# Altium integrated library Connector.IntLib: 20 symbols
Pins are listed as number, name and electrical type; pins without a type are passive.

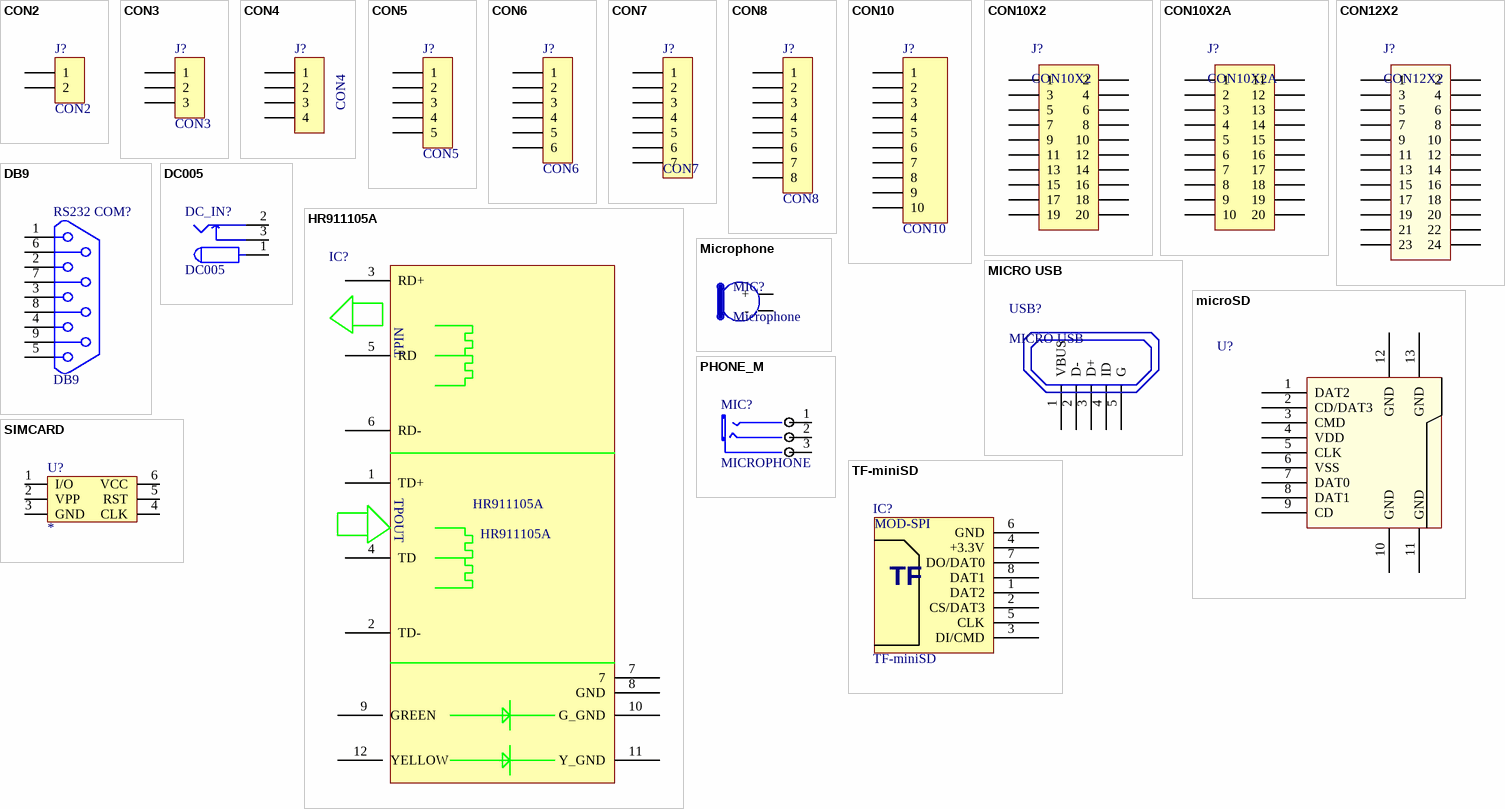
[diagram p0: symbols CON2 to TF-miniSD]

## CON2
designator J?
连接器
footprint SIP2_5.08
footprint HDR1X2 (Connector; Header; 2 Position)
footprint XH2.54-2P
footprint 6358-2P
footprint 5557-2P (pin 4.2mm)
footprint WJ2EDGR-5.08-2
footprint WJ500V-5.08-2
pins: 1, 2

## CON3
designator J?
连接器
footprint XH2.54-3P
footprint SIP3_5.08
footprint HDR1X3 (Connector; Header; 3 Position)
footprint WJ2EDGR-5.08-3
footprint WJ500V-5.08-3
pins: 1, 2, 3

## CON4
designator J?
连接器
footprint XH2.54-4P
footprint SIP4_5.08
footprint HDR1X4 (Connector; Header; 4 Position)
footprint XH2.0-4P
footprint WJ2EDGR-5.08-4
footprint WJ500V-5.08-4
pins: 1, 2, 3, 4

## CON5
designator J?
连接器
footprint XH2.54-5P
footprint SIP5_5.08
footprint HDR1X5 (Connector; Header; 5 Position)
footprint WJ2EDGR-5.08-5
footprint WJ500V-5.08-5
pins: 1, 2, 3, 4, 5

## CON6
designator J?
连接器
footprint XH2.54-6P
footprint HDR1X6 (Connector; Header; 6 Position)
footprint SIP6_5.08
footprint WJ2EDGR-5.08-6
footprint WJ500V-5.08-6
pins: 1, 2, 3, 4, 5, 6

## CON7
designator J?
连接器
footprint HDR1X7 (Connector; Header; 7 Position)
footprint XH2.54-7P
pins: 1, 2, 3, 4, 5, 6, 7

## CON8
designator J?
连接器
footprint XH2.54-8P
footprint HDR1X8 (Connector; Header; 8 Position)
footprint WJ2EDGR-5.08-8
footprint WJ500V-5.08-8
pins: 1, 2, 3, 4, 5, 6, 7, 8

## CON10
designator J?
连接器
footprint HDR1X10 (Connector; Header; 10 Position)
pins: 1, 2, 3, 4, 5, 6, 7, 8, 9, 10
1 alternate drawing of the same symbol

## CON10X2
designator J?
连接器
pins: 1, 2, 3, 4, 5, 6, 7, 8, 9, 10, 11, 12, 13, 14, 15, 16, 17, 18, 19, 20

## CON10X2A
designator J?
连接器
footprint BULL2X10_CEN_H (Connector; Header; 10x2 Position)
pins: 1, 2, 3, 4, 5, 6, 7, 8, 9, 10, 11, 12, 13, 14, 15, 16, 17, 18, 19, 20

## CON12X2
designator J?
连接器
pins: 1, 2, 3, 4, 5, 6, 7, 8, 9, 10, 11, 12, 13, 14, 15, 16, 17, 18, 19, 20, 21, 22, 23, 24

## DB9
designator RS232 COM?
DB9母座
footprint DB9_mu
pins: 1, 2, 3, 4, 5, 6, 7, 8, 9
2 alternate drawings of the same symbol

## DC005
designator DC_IN?
DC电源座子
footprint DC005
pins: 1, 2, 3
2 alternate drawings of the same symbol

## HR911105A
designator IC?
RJ45
footprint HR911105A
pins: 1 TD+, 2 TD-, 3 RD+, 4 TD, 5 RD, 6 RD-, 7, 8 GND, 9 GREEN, 10 G_GND, 11 Y_GND, 12 YELLOW
text: TPIN; TPOUT

## MICRO USB
designator USB?
footprint MICRO USB
pins: 1 VBUS, 2 D-, 3 D+, 4 ID, 5 G

## Microphone
designator MIC?
咪头
footprint MIC
pins: 1 +, 2 -

## microSD
designator U?  (value not drawn)
footprint microsd
pins: 1 DAT2, 2 CD/DAT3, 3 CMD, 4 VDD, 5 CLK, 6 VSS, 7 DAT0, 8 DAT1, 9 CD, 10 GND, 11 GND, 12 GND, 13 GND

## PHONE_M
designator MIC?, comment MICROPHONE
耳机插孔
footprint PHONE_ST
pins: 1 CHL, 2 CHR, 3 COM
2 alternate drawings of the same symbol

## SIMCARD
designator U?
手机SIM卡座
footprint SIMCARD
pins: 1 I/O, 2 VPP, 3 GND, 4 CLK, 5 RST, 6 VCC
2 alternate drawings of the same symbol

## TF-miniSD
designator IC?
SD卡座
footprint TF-1
footprint TF-1--
footprint TF-4
footprint TF-3
pins: 1 DAT2, 2 CS/DAT3, 3 DI/CMD, 4 +3.3V, 5 CLK, 6 GND, 7 DO/DAT0, 8 DAT1
text: MOD-SPI; TF